# EAGLE library part SN74LXCH8T245PWR (library SamacSys_Parts)
Translation - Voltage Levels 8-bit dual-supply bus transceiver with configurable voltage translation and 3-state outputs 24-TSSOP -40 to 125 Source: Datasheet <https://www.ti.com/lit/ds/symlink/sn74lxch8t245.pdf?ts=1618826087506&ref_url=https%3A%2F%2Fwww.ti.com%2Fproduct%2FSN74LXCH8T245%3FkeyMatch%3DSN74LXCH8T245PWR%26tisearch%3Dsearch-everything>
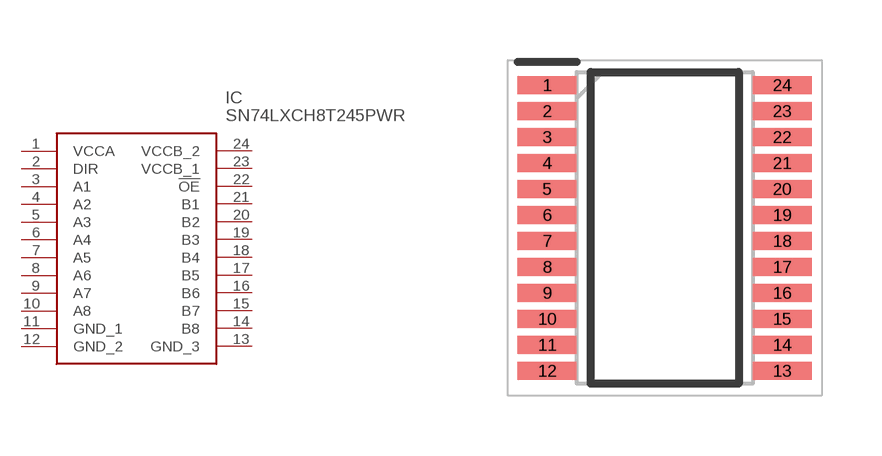
[diagram p107: symbol with the pads of SOP65P640X120-24N; footprint SOP65P640X120-24N]

Designator prefix IC

## SN74LXCH8T245PWR (DESCRIPTION: Translation - Voltage Levels 8-bit dual-supply bus transceiver with configurable voltage translation and 3-state outputs 24-TSSOP -40 to 125; HEIGHT: 1.2mm; MANUFACTURER_NAME: Texas Instruments; MANUFACTURER_PART_NUMBER: SN74LXCH8T245PWR; MOUSER_PART_NUMBER: 595-SN74LXCH8T245PWR; MOUSER_PRICE-STOCK: https://www.mouser.co.uk/ProductDetail/Texas-Instruments/SN74LXCH8T245PWR?qs=DRkmTr78QAR5S8jD99cT9A%3D%3D)  [SOP65P640X120-24N]
1  VCCA
2  DIR
3  A1
4  A2
5  A3
6  A4
7  A5
8  A6
9  A7
10  A8
11  GND_1
12  GND_2
13  GND_3
14  B8
15  B7
16  B6
17  B5
18  B4
19  B3
20  B2
21  B1
22  !OE
23  VCCB_1
24  VCCB_2

## Footprint SOP65P640X120-24N (pad centres in mm)
PW (R-PDSO-G24)
smd 1.475 x 0.45: 1 -2.938,3.575; 2 -2.938,2.925; 3 -2.938,2.275; 4 -2.938,1.625; 5 -2.938,0.975; 6 -2.938,0.325; 7 -2.938,-0.325; 8 -2.938,-0.975; 9 -2.938,-1.625; 10 -2.938,-2.275; 11 -2.938,-2.925; 12 -2.938,-3.575; 13 2.938,-3.575; 14 2.938,-2.925; 15 2.938,-2.275; 16 2.938,-1.625; 17 2.938,-0.975; 18 2.938,-0.325; 19 2.938,0.325; 20 2.938,0.975; 21 2.938,1.625; 22 2.938,2.275; 23 2.938,2.925; 24 2.938,3.575